# EAGLE library part P16F873 (library C8051F300)
PIC16F873 use akizuki zif socket
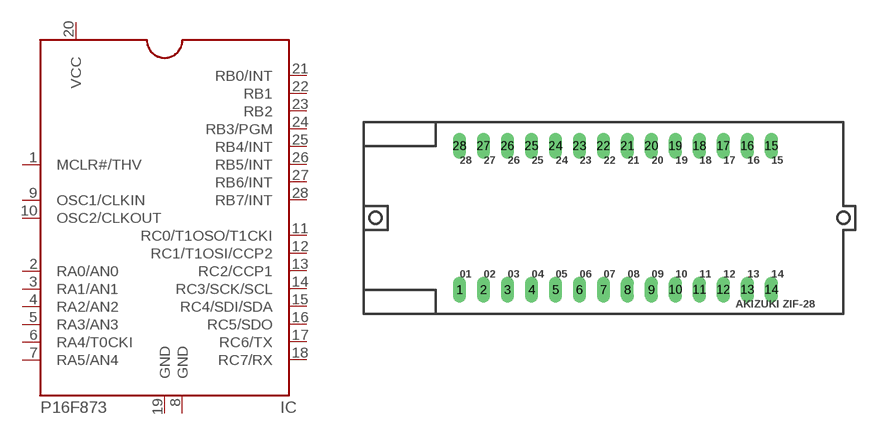
[diagram p0: symbol with the pads of AKI-ZIF28; footprint AKI-ZIF28]

Designator prefix IC

## P16F873  [AKI-ZIF28]
1  MCLR#/THV
2  RA0/AN0
3  RA1/AN1
4  RA2/AN2
5  RA3/AN3
6  RA4/T0CKI
7  RA5/AN4
8  GND  pwr
9  OSC1/CLKIN
10  OSC2/CLKOUT  out
11  RC0/T1OSO/T1CKI
12  RC1/T1OSI/CCP2
13  RC2/CCP1
14  RC3/SCK/SCL
15  RC4/SDI/SDA
16  RC5/SDO
17  RC6/TX
18  RC7/RX
19  GND  pwr
20  VCC  pwr
21  RB0/INT
22  RB1
23  RB2
24  RB3/PGM
25  RB4/INT
26  RB5/INT
27  RB6/INT
28  RB7/INT

## Footprint AKI-ZIF28 (pad centres in mm)
drill 0.889 long: 1 -16.51,-7.62; 2 -13.97,-7.62; 3 -11.43,-7.62; 4 -8.89,-7.62; 5 -6.35,-7.62; 6 -3.81,-7.62; 7 -1.27,-7.62; 8 1.27,-7.62; 9 3.81,-7.62; 10 6.35,-7.62; 11 8.89,-7.62; 12 11.43,-7.62; 13 13.97,-7.62; 14 16.51,-7.62; 15 16.51,7.62; 16 13.97,7.62; 17 11.43,7.62; 18 8.89,7.62; 19 6.35,7.62; 20 3.81,7.62; 21 1.27,7.62; 22 -1.27,7.62; 23 -3.81,7.62; 24 -6.35,7.62; 25 -8.89,7.62; 26 -11.43,7.62; 27 -13.97,7.62; 28 -16.51,7.62